# EAGLE library part NCP708MU330TAG (library sjg-pixl)
LDO Regulator Pos 3.3V 1A 6-Pin UDFN EP T/R Source: Datasheet <https://www.onsemi.com/pub/Collateral/NCP708-D.PDF>
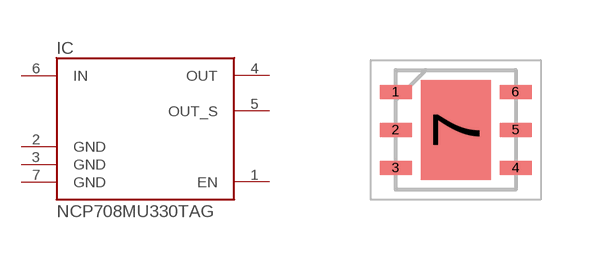
[diagram p4: symbol with the pads of SON95P300X300X55-7N; footprint SON95P300X300X55-7N]

Designator prefix IC

## NCP708MU330TAG (ARROW_PART_NUMBER: NCP708MU330TAG; ARROW_PRICE-STOCK: https://www.arrow.com/en/products/ncp708mu330tag/on-semiconductor; DESCRIPTION: LDO Regulator Pos 3.3V 1A 6-Pin UDFN EP T/R; HEIGHT: 0.55mm; MANUFACTURER_NAME: ON Semiconductor; MANUFACTURER_PART_NUMBER: NCP708MU330TAG; MOUSER_PART_NUMBER: 863-NCP708MU330TAG; MOUSER_PRICE-STOCK: https://www.mouser.co.uk/ProductDetail/ON-Semiconductor/NCP708MU330TAG?qs=tCMd4XlZ%2FiAK%2FL2%2FBzPAnw%3D%3D)  [SON95P300X300X55-7N]
1  EN
2  GND
3  GND
4  OUT
5  OUT_S
6  IN
7  GND

## Footprint SON95P300X300X55-7N (pad centres in mm)
UDFN6-
smd 0.8 x 0.35: 1 -1.5,0.95; 2 -1.5,0; 3 -1.5,-0.95; 4 1.5,-0.95; 5 1.5,0; 6 1.5,0.95
smd 1.75 x 2.5: 7 0,0